# EAGLE library part MCP3008 (library pimoroni)
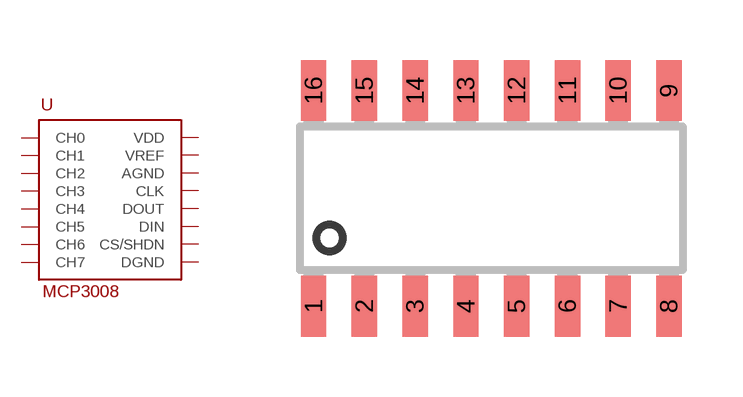
[diagram p13: symbol with the pads of SOIC16; footprint SOIC16]

Designator prefix -

## MCP3008  [SOIC16]
1  CH0
2  CH1
3  CH2
4  CH3
5  CH4
6  CH5
7  CH6
8  CH7
9  DGND
10  CS/SHDN
11  DIN
12  DOUT
13  CLK
14  AGND
15  VREF
16  VDD

## Footprint SOIC16 (pad centres in mm)
16 SOICN (150 MIL BODY WITH EXPOSED PAD) Source: Data sheet <http://www.cirrus.com/en/pubs/proDatasheet/CS1610-11-12-13_F3.pdf>
smd 0.635 x 1.524: 1 -4.445,-2.695; 2 -3.175,-2.695; 3 -1.905,-2.695; 4 -0.635,-2.695; 5 0.635,-2.695; 6 1.905,-2.695; 7 3.175,-2.695; 8 4.445,-2.695; 9 4.445,2.695; 10 3.175,2.695; 11 1.905,2.695; 12 0.635,2.695; 13 -0.635,2.695; 14 -1.905,2.695; 15 -3.175,2.695; 16 -4.445,2.695